# Altium footprint library Components - 21.05.24 - 10.53.PcbLib: 1 footprints
Each footprint in its own frame and in the unit in brackets; x right, y up, seen from the top. Pads: shape width x height; smd on the part's side, far side on the other; paste and mask are expansions set on the pad; w line width, h text height; cw(c..) or ccw(c..) is an arc to the next point about the centre after c.
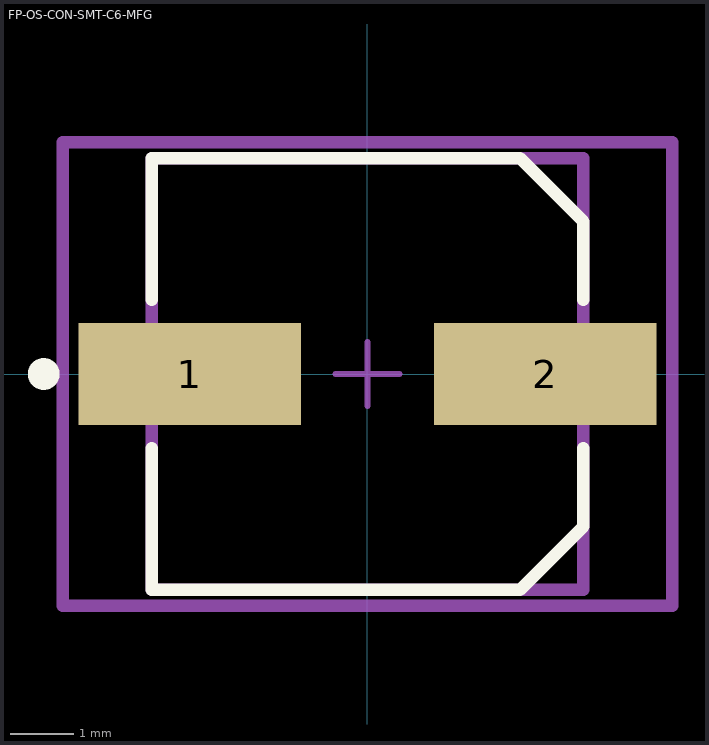
[diagram p0: the footprint, top view; thin cyan lines are the x and y axes]

## FP-OS-CON-SMT-C6-MFG [mm]
pads (2):
  rect 3.5x1.6 smd paste+0 mask+0: 1(-2.8,0) 2(2.8,0)
Top Overlay:
  circle w0.25: c-5.1,0 r0.125
  lines w0.2: -3.4,-1.175 -3.4,-3.4 2.4,-3.4 3.4,-2.4 3.4,-1.175 ; -3.4,1.175 -3.4,3.4 2.4,3.4 3.4,2.4 3.4,1.175
Mechanical 5:
  lines w0.2: -4.8,-3.65 4.8,-3.65 4.8,3.65 -4.8,3.65 -4.8,-3.65
  text ".Designator" at 0,0.187 h1
Mechanical 13:
  lines w0.2: -3.4,-3.4 3.4,-3.4 3.4,3.4 -3.4,3.4 -3.4,-3.4
Mechanical 15:
  lines w0.2: -4.8,-3.65 4.8,-3.65 4.8,3.65 -4.8,3.65 -4.8,-3.65
Mechanical 16:
  lines w0.1: -0.5,0 0.5,0 ; 0,-0.5 0,0.5
3D body "Cap_Panasonic_20SVPK150M_eec.STEP": height 0.25, standoff 0, extent -4.8,-3.65 4.8,3.65